# Altium integrated library Maxim Analog Filters.IntLib: 555 symbols (part 21 of 26)
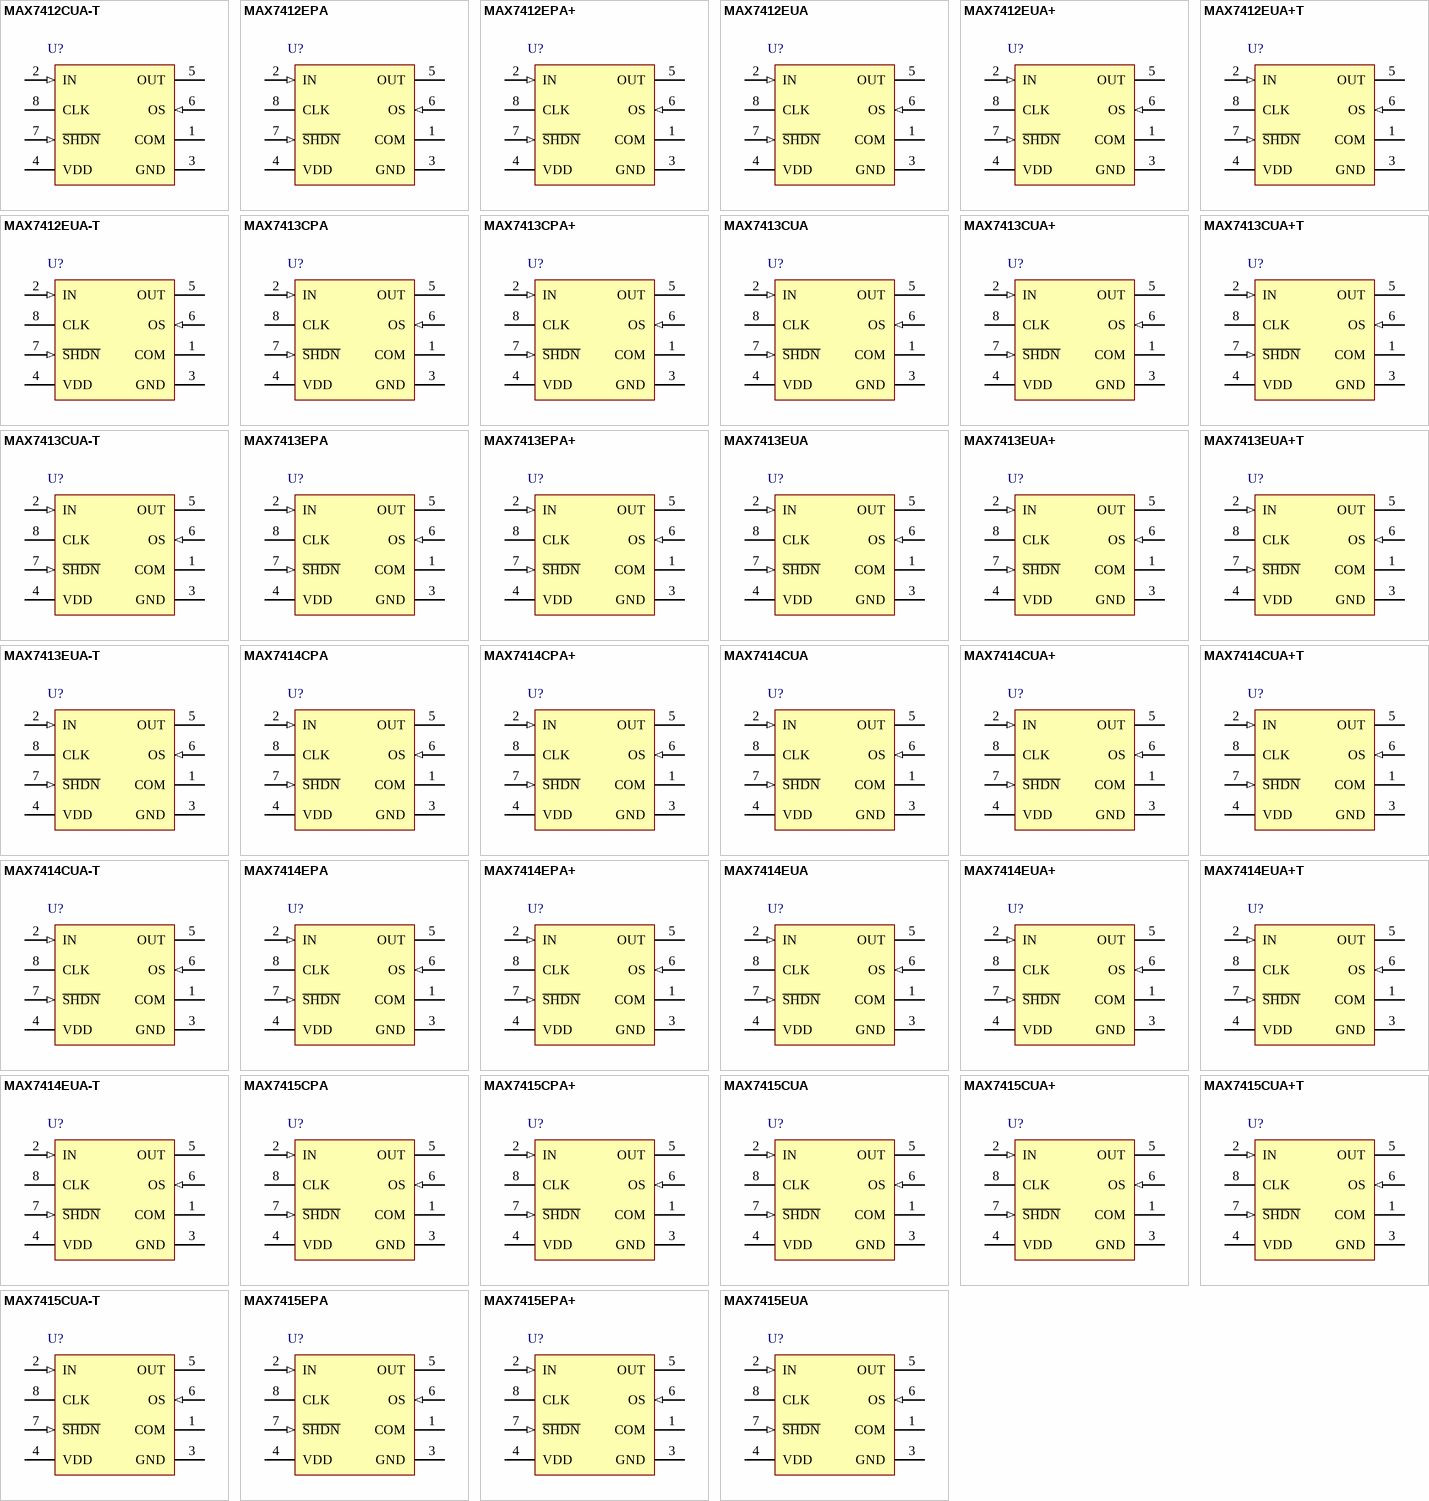
[diagram p37: symbols MAX7412CUA-T to MAX7415EUA]

## MAX7414EPA+
designator U?
5th-Order Switched Capacitor Lowpass Filter, Butterworth, 3 V, -40 to 85 degC, 8-Pin DIP (P8+1), Pb-Free; Generic Part Number: MAX7414; PartNumber: MAX7414EPA+; Filter Sections: 1; Order Per Filter Section: 5; Program Method: Clock; DatasheetVersion: Rev. 1; PackageVersion: Rev. E, 04/2011; PackageReference: P8+1; PackageDescription: 8-Pin Plastic Dual-In-Line, Narrow (0.3in) (P8+1), Body 9.375 x 6.985 mm, Pitch 2.54 mm; Supplier 1: Digi-Key; Supplier Part Number 1: MAX7414EPA+-ND; Supplier 2: Mouser; Supplier Part Number 2: 700-MAX7414EPA; Filter Characteristic: Butterworth; Filter Class: Switched Cap; Filter Type: Lowpass; RoHS: Pb-Free; Mounting Technology: Through Hole; Code_JEDEC: MS001-XX; ComponentLink1Description: Manufacturer URL; ComponentLink1URL: http://www.maximintegrated.com/; ComponentLink2Description: Datasheet; ComponentLink2URL: http://datasheets.maximintegrated.com/en/ds/MAX7409-MAX7414.pdf; ComponentLink3Description: Package Specification; ComponentLink3URL: http://pdfserv.maximintegrated.com/package_dwgs/21-0043.PDF
footprint MAXM-P8+1 (DIP, 8-Leads, Body 9.375x6.985mm, Pitch 2.54mm)
pins: 1 COM "Common Input. Biased internally at midsupply. Bypass externally to GND with a 0.1uF capacitor. To override internal biasing, drive with an external supply.", 2 IN (in) "Filter Input", 3 GND (power) "Ground", 4 VDD (power) "Positive Supply Input: +5V for MAX7400/MAX7403, +3V for MAX7404/MAX7407", 5 OUT (hiz) "Filter Output", 6 OS (in) "Offset Adjust Input. To adjust output offset, bias OS externally. Connect OS to COM if no offset adjustment is needed. Refer to Offset and Common-Mode Input Adjustment section.", 7 ~{SHDN} (in) "Shutdown Input. Drive low to enable shutdown mode; drive high or connect to VDD for normal operation.", 8 CLK "Clock Input. To override the internal oscillator, connect to an external clock; otherwise, connect an external capacitor (COSC) from CLK to GND to set the internal oscillator frequency."

## MAX7414EUA
designator U?
5th-Order Switched Capacitor Lowpass Filter, Butterworth, 3 V, -40 to 85 degC, 8-Pin SOP (U8-1); Generic Part Number: MAX7414; PartNumber: MAX7414EUA; Filter Sections: 1; Order Per Filter Section: 5; Program Method: Clock; DatasheetVersion: Rev. 1; PackageVersion: Rev. L, 08/2009; PackageReference: U8-1; PackageDescription: 8-Pin Micro-MAX, Thin Shrink Small-Outline (U8-1), Body 3 x 3 mm, Pitch 0.65mm; Supplier 1: Mouser; Supplier Part Number 1: N/A; Filter Characteristic: Butterworth; Filter Class: Switched Cap; Filter Type: Lowpass; Mounting Technology: Surface Mount; Code_JEDEC: MO-187; ComponentLink1Description: Manufacturer URL; ComponentLink1URL: http://www.maximintegrated.com/; ComponentLink2Description: Datasheet; ComponentLink2URL: http://datasheets.maximintegrated.com/en/ds/MAX7409-MAX7414.pdf; ComponentLink3Description: Package Specification; ComponentLink3URL: http://pdfserv.maximintegrated.com/package_dwgs/21-0036.PDF
footprint MAXM-U8-1_N (SOP, 8-Leads, Body 3x3mm, Pitch 0.65mm, IPC Medium Density)
footprint MAXM-U8-1_L (SOP, 8-Leads, Body 3x3mm, Pitch 0.65mm, IPC High Density)
footprint MAXM-U8-1_M (SOP, 8-Leads, Body 3x3mm, Pitch 0.65mm, IPC Low Density)
pins: 1 COM "Common Input. Biased internally at midsupply. Bypass externally to GND with a 0.1uF capacitor. To override internal biasing, drive with an external supply.", 2 IN (in) "Filter Input", 3 GND (power) "Ground", 4 VDD (power) "Positive Supply Input: +5V for MAX7400/MAX7403, +3V for MAX7404/MAX7407", 5 OUT (hiz) "Filter Output", 6 OS (in) "Offset Adjust Input. To adjust output offset, bias OS externally. Connect OS to COM if no offset adjustment is needed. Refer to Offset and Common-Mode Input Adjustment section.", 7 ~{SHDN} (in) "Shutdown Input. Drive low to enable shutdown mode; drive high or connect to VDD for normal operation.", 8 CLK "Clock Input. To override the internal oscillator, connect to an external clock; otherwise, connect an external capacitor (COSC) from CLK to GND to set the internal oscillator frequency."

## MAX7414EUA+
designator U?
5th-Order Switched Capacitor Lowpass Filter, Butterworth, 3 V, -40 to 85 degC, 8-Pin SOP (U8+1), Pb-Free; Generic Part Number: MAX7414; PartNumber: MAX7414EUA+; Filter Sections: 1; Order Per Filter Section: 5; Program Method: Clock; DatasheetVersion: Rev. 1; PackageVersion: Rev. L, 08/2009; PackageReference: U8+1; PackageDescription: 8-Pin Micro-MAX, Thin Shrink Small-Outline (U8+1), Body 3 x 3 mm, Pitch 0.65 mm; Supplier 1: Digi-Key; Supplier Part Number 1: MAX7414EUA+-ND; Supplier 2: Farnell; Supplier Part Number 2: 1610126; Supplier 3: Newark; Supplier Part Number 3: 26R6615; Supplier 4: Newark; Supplier Part Number 4: 89K6151; Supplier 5: Mouser; Supplier Part Number 5: 700-MAX7414EUA; Filter Characteristic: Butterworth; Filter Class: Switched Cap; Filter Type: Lowpass; RoHS: Pb-Free; Mounting Technology: Surface Mount; Code_JEDEC: MO-187; ComponentLink1Description: Manufacturer URL; ComponentLink1URL: http://www.maximintegrated.com/; ComponentLink2Description: Datasheet; ComponentLink2URL: http://datasheets.maximintegrated.com/en/ds/MAX7409-MAX7414.pdf; ComponentLink3Description: Package Specification; ComponentLink3URL: http://pdfserv.maximintegrated.com/package_dwgs/21-0036.PDF
footprint MAXM-U8+1_N (SOP, 8-Leads, Body 3x3mm, Pitch 0.65mm, IPC Medium Density)
footprint MAXM-U8+1_L (SOP, 8-Leads, Body 3x3mm, Pitch 0.65mm, IPC High Density)
footprint MAXM-U8+1_M (SOP, 8-Leads, Body 3x3mm, Pitch 0.65mm, IPC Low Density)
pins: 1 COM "Common Input. Biased internally at midsupply. Bypass externally to GND with a 0.1uF capacitor. To override internal biasing, drive with an external supply.", 2 IN (in) "Filter Input", 3 GND (power) "Ground", 4 VDD (power) "Positive Supply Input: +5V for MAX7400/MAX7403, +3V for MAX7404/MAX7407", 5 OUT (hiz) "Filter Output", 6 OS (in) "Offset Adjust Input. To adjust output offset, bias OS externally. Connect OS to COM if no offset adjustment is needed. Refer to Offset and Common-Mode Input Adjustment section.", 7 ~{SHDN} (in) "Shutdown Input. Drive low to enable shutdown mode; drive high or connect to VDD for normal operation.", 8 CLK "Clock Input. To override the internal oscillator, connect to an external clock; otherwise, connect an external capacitor (COSC) from CLK to GND to set the internal oscillator frequency."

## MAX7414EUA+T
designator U?
5th-Order Switched Capacitor Lowpass Filter, Butterworth, 3 V, -40 to 85 degC, 8-Pin SOP (U8+1), Pb-Free, Tape and Reel; Generic Part Number: MAX7414; PartNumber: MAX7414EUA+T; Filter Sections: 1; Order Per Filter Section: 5; Program Method: Clock; DatasheetVersion: Rev. 1; PackageVersion: Rev. L, 08/2009; PackageReference: U8+1; PackageDescription: 8-Pin Micro-MAX, Thin Shrink Small-Outline (U8+1), Body 3 x 3 mm, Pitch 0.65 mm; Supplier 1: Digi-Key; Supplier Part Number 1: MAX7414EUA+T-ND; Supplier 2: Mouser; Supplier Part Number 2: 700-MAX7414EUAT; Filter Characteristic: Butterworth; Filter Class: Switched Cap; Filter Type: Lowpass; Packing: Tape and Reel; RoHS: Pb-Free; Mounting Technology: Surface Mount; Code_JEDEC: MO-187; ComponentLink1Description: Manufacturer URL; ComponentLink1URL: http://www.maximintegrated.com/; ComponentLink2Description: Datasheet; ComponentLink2URL: http://datasheets.maximintegrated.com/en/ds/MAX7409-MAX7414.pdf; ComponentLink3Description: Package Specification; ComponentLink3URL: http://pdfserv.maximintegrated.com/package_dwgs/21-0036.PDF
footprint MAXM-U8+1_N (SOP, 8-Leads, Body 3x3mm, Pitch 0.65mm, IPC Medium Density)
footprint MAXM-U8+1_L (SOP, 8-Leads, Body 3x3mm, Pitch 0.65mm, IPC High Density)
footprint MAXM-U8+1_M (SOP, 8-Leads, Body 3x3mm, Pitch 0.65mm, IPC Low Density)
pins: 1 COM "Common Input. Biased internally at midsupply. Bypass externally to GND with a 0.1uF capacitor. To override internal biasing, drive with an external supply.", 2 IN (in) "Filter Input", 3 GND (power) "Ground", 4 VDD (power) "Positive Supply Input: +5V for MAX7400/MAX7403, +3V for MAX7404/MAX7407", 5 OUT (hiz) "Filter Output", 6 OS (in) "Offset Adjust Input. To adjust output offset, bias OS externally. Connect OS to COM if no offset adjustment is needed. Refer to Offset and Common-Mode Input Adjustment section.", 7 ~{SHDN} (in) "Shutdown Input. Drive low to enable shutdown mode; drive high or connect to VDD for normal operation.", 8 CLK "Clock Input. To override the internal oscillator, connect to an external clock; otherwise, connect an external capacitor (COSC) from CLK to GND to set the internal oscillator frequency."

## MAX7414EUA-T
designator U?
5th-Order Switched Capacitor Lowpass Filter, Butterworth, 3 V, -40 to 85 degC, 8-Pin SOP (U8-1), Tape and Reel; Generic Part Number: MAX7414; PartNumber: MAX7414EUA-T; Filter Sections: 1; Order Per Filter Section: 5; Program Method: Clock; DatasheetVersion: Rev. 1; PackageVersion: Rev. L, 08/2009; PackageReference: U8-1; PackageDescription: 8-Pin Micro-MAX, Thin Shrink Small-Outline (U8-1), Body 3 x 3 mm, Pitch 0.65mm; Supplier 1: Mouser; Supplier Part Number 1: N/A; Filter Characteristic: Butterworth; Filter Class: Switched Cap; Filter Type: Lowpass; Packing: Tape and Reel; Mounting Technology: Surface Mount; Code_JEDEC: MO-187; ComponentLink1Description: Manufacturer URL; ComponentLink1URL: http://www.maximintegrated.com/; ComponentLink2Description: Datasheet; ComponentLink2URL: http://datasheets.maximintegrated.com/en/ds/MAX7409-MAX7414.pdf; ComponentLink3Description: Package Specification; ComponentLink3URL: http://pdfserv.maximintegrated.com/package_dwgs/21-0036.PDF
footprint MAXM-U8-1_N (SOP, 8-Leads, Body 3x3mm, Pitch 0.65mm, IPC Medium Density)
footprint MAXM-U8-1_L (SOP, 8-Leads, Body 3x3mm, Pitch 0.65mm, IPC High Density)
footprint MAXM-U8-1_M (SOP, 8-Leads, Body 3x3mm, Pitch 0.65mm, IPC Low Density)
pins: 1 COM "Common Input. Biased internally at midsupply. Bypass externally to GND with a 0.1uF capacitor. To override internal biasing, drive with an external supply.", 2 IN (in) "Filter Input", 3 GND (power) "Ground", 4 VDD (power) "Positive Supply Input: +5V for MAX7400/MAX7403, +3V for MAX7404/MAX7407", 5 OUT (hiz) "Filter Output", 6 OS (in) "Offset Adjust Input. To adjust output offset, bias OS externally. Connect OS to COM if no offset adjustment is needed. Refer to Offset and Common-Mode Input Adjustment section.", 7 ~{SHDN} (in) "Shutdown Input. Drive low to enable shutdown mode; drive high or connect to VDD for normal operation.", 8 CLK "Clock Input. To override the internal oscillator, connect to an external clock; otherwise, connect an external capacitor (COSC) from CLK to GND to set the internal oscillator frequency."

## MAX7415CPA
designator U?
5th-Order Switched Capacitor Lowpass Filter, Elliptic, 3 V, 0 to 70 degC, 8-Pin DIP (P8-1); Generic Part Number: MAX7415; PartNumber: MAX7415CPA; Filter Sections: 1; Order Per Filter Section: 5; Program Method: Clock; DatasheetVersion: Rev. 1; PackageVersion: Rev. E, 04/2011; PackageReference: P8-1; PackageDescription: 8-Pin Plastic Dual-In-Line, Narrow (0.3in) (P8-1), Body 9.375 x 6.985 mm, Pitch 2.54 mm; Supplier 1: Mouser; Supplier Part Number 1: N/A; Filter Characteristic: Elliptic; Filter Class: Switched Cap; Filter Type: Lowpass; Mounting Technology: Through Hole; Code_JEDEC: MS001-XX; ComponentLink1Description: Manufacturer URL; ComponentLink1URL: http://www.maximintegrated.com/; ComponentLink2Description: Datasheet; ComponentLink2URL: http://datasheets.maximintegrated.com/en/ds/MAX7408-MAX7415.pdf; ComponentLink3Description: Package Specification; ComponentLink3URL: http://pdfserv.maximintegrated.com/package_dwgs/21-0043.PDF
footprint MAXM-P8-1 (DIP, 8-Leads, Body 9.375x6.985mm, Pitch 2.54mm)
pins: 1 COM "Common Input. Biased internally at midsupply. Bypass externally to GND with a 0.1uF capacitor. To override internal biasing, drive with an external supply.", 2 IN (in) "Filter Input", 3 GND (power) "Ground", 4 VDD (power) "Positive Supply Input: +5V for MAX7400/MAX7403, +3V for MAX7404/MAX7407", 5 OUT (hiz) "Filter Output", 6 OS (in) "Offset Adjust Input. To adjust output offset, bias OS externally. Connect OS to COM if no offset adjustment is needed. Refer to Offset and Common-Mode Input Adjustment section.", 7 ~{SHDN} (in) "Shutdown Input. Drive low to enable shutdown mode; drive high or connect to VDD for normal operation.", 8 CLK "Clock Input. To override the internal oscillator, connect to an external clock; otherwise, connect an external capacitor (COSC) from CLK to GND to set the internal oscillator frequency."

## MAX7415CPA+
designator U?
5th-Order Switched Capacitor Lowpass Filter, Elliptic, 3 V, 0 to 70 degC, 8-Pin DIP (P8+1), Pb-Free; Generic Part Number: MAX7415; PartNumber: MAX7415CPA+; Filter Sections: 1; Order Per Filter Section: 5; Program Method: Clock; DatasheetVersion: Rev. 1; PackageVersion: Rev. E, 04/2011; PackageReference: P8+1; PackageDescription: 8-Pin Plastic Dual-In-Line, Narrow (0.3in) (P8+1), Body 9.375 x 6.985 mm, Pitch 2.54 mm; Supplier 1: Digi-Key; Supplier Part Number 1: MAX7415CPA+-ND; Supplier 2: Mouser; Supplier Part Number 2: 700-MAX7415CPA; Filter Characteristic: Elliptic; Filter Class: Switched Cap; Filter Type: Lowpass; RoHS: Pb-Free; Mounting Technology: Through Hole; Code_JEDEC: MS001-XX; ComponentLink1Description: Manufacturer URL; ComponentLink1URL: http://www.maximintegrated.com/; ComponentLink2Description: Datasheet; ComponentLink2URL: http://datasheets.maximintegrated.com/en/ds/MAX7408-MAX7415.pdf; ComponentLink3Description: Package Specification; ComponentLink3URL: http://pdfserv.maximintegrated.com/package_dwgs/21-0043.PDF
footprint MAXM-P8+1 (DIP, 8-Leads, Body 9.375x6.985mm, Pitch 2.54mm)
pins: 1 COM "Common Input. Biased internally at midsupply. Bypass externally to GND with a 0.1uF capacitor. To override internal biasing, drive with an external supply.", 2 IN (in) "Filter Input", 3 GND (power) "Ground", 4 VDD (power) "Positive Supply Input: +5V for MAX7400/MAX7403, +3V for MAX7404/MAX7407", 5 OUT (hiz) "Filter Output", 6 OS (in) "Offset Adjust Input. To adjust output offset, bias OS externally. Connect OS to COM if no offset adjustment is needed. Refer to Offset and Common-Mode Input Adjustment section.", 7 ~{SHDN} (in) "Shutdown Input. Drive low to enable shutdown mode; drive high or connect to VDD for normal operation.", 8 CLK "Clock Input. To override the internal oscillator, connect to an external clock; otherwise, connect an external capacitor (COSC) from CLK to GND to set the internal oscillator frequency."

## MAX7415CUA
designator U?
5th-Order Switched Capacitor Lowpass Filter, Elliptic, 3 V, 0 to 70 degC, 8-Pin SOP (U8-1); Generic Part Number: MAX7415; PartNumber: MAX7415CUA; Filter Sections: 1; Order Per Filter Section: 5; Program Method: Clock; DatasheetVersion: Rev. 1; PackageVersion: Rev. L, 08/2009; PackageReference: U8-1; PackageDescription: 8-Pin Micro-MAX, Thin Shrink Small-Outline (U8-1), Body 3 x 3 mm, Pitch 0.65mm; Supplier 1: Mouser; Supplier Part Number 1: N/A; Filter Characteristic: Elliptic; Filter Class: Switched Cap; Filter Type: Lowpass; Mounting Technology: Surface Mount; Code_JEDEC: MO-187; ComponentLink1Description: Manufacturer URL; ComponentLink1URL: http://www.maximintegrated.com/; ComponentLink2Description: Datasheet; ComponentLink2URL: http://datasheets.maximintegrated.com/en/ds/MAX7408-MAX7415.pdf; ComponentLink3Description: Package Specification; ComponentLink3URL: http://pdfserv.maximintegrated.com/package_dwgs/21-0036.PDF
footprint MAXM-U8-1_N (SOP, 8-Leads, Body 3x3mm, Pitch 0.65mm, IPC Medium Density)
footprint MAXM-U8-1_L (SOP, 8-Leads, Body 3x3mm, Pitch 0.65mm, IPC High Density)
footprint MAXM-U8-1_M (SOP, 8-Leads, Body 3x3mm, Pitch 0.65mm, IPC Low Density)
pins: 1 COM "Common Input. Biased internally at midsupply. Bypass externally to GND with a 0.1uF capacitor. To override internal biasing, drive with an external supply.", 2 IN (in) "Filter Input", 3 GND (power) "Ground", 4 VDD (power) "Positive Supply Input: +5V for MAX7400/MAX7403, +3V for MAX7404/MAX7407", 5 OUT (hiz) "Filter Output", 6 OS (in) "Offset Adjust Input. To adjust output offset, bias OS externally. Connect OS to COM if no offset adjustment is needed. Refer to Offset and Common-Mode Input Adjustment section.", 7 ~{SHDN} (in) "Shutdown Input. Drive low to enable shutdown mode; drive high or connect to VDD for normal operation.", 8 CLK "Clock Input. To override the internal oscillator, connect to an external clock; otherwise, connect an external capacitor (COSC) from CLK to GND to set the internal oscillator frequency."

## MAX7415CUA+
designator U?
5th-Order Switched Capacitor Lowpass Filter, Elliptic, 3 V, 0 to 70 degC, 8-Pin SOP (U8+1), Pb-Free; Generic Part Number: MAX7415; PartNumber: MAX7415CUA+; Filter Sections: 1; Order Per Filter Section: 5; Program Method: Clock; DatasheetVersion: Rev. 1; PackageVersion: Rev. L, 08/2009; PackageReference: U8+1; PackageDescription: 8-Pin Micro-MAX, Thin Shrink Small-Outline (U8+1), Body 3 x 3 mm, Pitch 0.65 mm; Supplier 1: Digi-Key; Supplier Part Number 1: MAX7415CUA+-ND; Supplier 2: Mouser; Supplier Part Number 2: 700-MAX7415CUA; Filter Characteristic: Elliptic; Filter Class: Switched Cap; Filter Type: Lowpass; RoHS: Pb-Free; Mounting Technology: Surface Mount; Code_JEDEC: MO-187; ComponentLink1Description: Manufacturer URL; ComponentLink1URL: http://www.maximintegrated.com/; ComponentLink2Description: Datasheet; ComponentLink2URL: http://datasheets.maximintegrated.com/en/ds/MAX7408-MAX7415.pdf; ComponentLink3Description: Package Specification; ComponentLink3URL: http://pdfserv.maximintegrated.com/package_dwgs/21-0036.PDF
footprint MAXM-U8+1_N (SOP, 8-Leads, Body 3x3mm, Pitch 0.65mm, IPC Medium Density)
footprint MAXM-U8+1_L (SOP, 8-Leads, Body 3x3mm, Pitch 0.65mm, IPC High Density)
footprint MAXM-U8+1_M (SOP, 8-Leads, Body 3x3mm, Pitch 0.65mm, IPC Low Density)
pins: 1 COM "Common Input. Biased internally at midsupply. Bypass externally to GND with a 0.1uF capacitor. To override internal biasing, drive with an external supply.", 2 IN (in) "Filter Input", 3 GND (power) "Ground", 4 VDD (power) "Positive Supply Input: +5V for MAX7400/MAX7403, +3V for MAX7404/MAX7407", 5 OUT (hiz) "Filter Output", 6 OS (in) "Offset Adjust Input. To adjust output offset, bias OS externally. Connect OS to COM if no offset adjustment is needed. Refer to Offset and Common-Mode Input Adjustment section.", 7 ~{SHDN} (in) "Shutdown Input. Drive low to enable shutdown mode; drive high or connect to VDD for normal operation.", 8 CLK "Clock Input. To override the internal oscillator, connect to an external clock; otherwise, connect an external capacitor (COSC) from CLK to GND to set the internal oscillator frequency."

## MAX7415CUA+T
designator U?
5th-Order Switched Capacitor Lowpass Filter, Elliptic, 3 V, 0 to 70 degC, 8-Pin SOP (U8+1), Pb-Free, Tape and Reel; Generic Part Number: MAX7415; PartNumber: MAX7415CUA+T; Filter Sections: 1; Order Per Filter Section: 5; Program Method: Clock; DatasheetVersion: Rev. 1; PackageVersion: Rev. L, 08/2009; PackageReference: U8+1; PackageDescription: 8-Pin Micro-MAX, Thin Shrink Small-Outline (U8+1), Body 3 x 3 mm, Pitch 0.65 mm; Supplier 1: Digi-Key; Supplier Part Number 1: MAX7415CUA+T-ND; Supplier 2: Mouser; Supplier Part Number 2: 700-MAX7415CUAT; Filter Characteristic: Elliptic; Filter Class: Switched Cap; Filter Type: Lowpass; Packing: Tape and Reel; RoHS: Pb-Free; Mounting Technology: Surface Mount; Code_JEDEC: MO-187; ComponentLink1Description: Manufacturer URL; ComponentLink1URL: http://www.maximintegrated.com/; ComponentLink2Description: Datasheet; ComponentLink2URL: http://datasheets.maximintegrated.com/en/ds/MAX7408-MAX7415.pdf; ComponentLink3Description: Package Specification; ComponentLink3URL: http://pdfserv.maximintegrated.com/package_dwgs/21-0036.PDF
footprint MAXM-U8+1_N (SOP, 8-Leads, Body 3x3mm, Pitch 0.65mm, IPC Medium Density)
footprint MAXM-U8+1_L (SOP, 8-Leads, Body 3x3mm, Pitch 0.65mm, IPC High Density)
footprint MAXM-U8+1_M (SOP, 8-Leads, Body 3x3mm, Pitch 0.65mm, IPC Low Density)
pins: 1 COM "Common Input. Biased internally at midsupply. Bypass externally to GND with a 0.1uF capacitor. To override internal biasing, drive with an external supply.", 2 IN (in) "Filter Input", 3 GND (power) "Ground", 4 VDD (power) "Positive Supply Input: +5V for MAX7400/MAX7403, +3V for MAX7404/MAX7407", 5 OUT (hiz) "Filter Output", 6 OS (in) "Offset Adjust Input. To adjust output offset, bias OS externally. Connect OS to COM if no offset adjustment is needed. Refer to Offset and Common-Mode Input Adjustment section.", 7 ~{SHDN} (in) "Shutdown Input. Drive low to enable shutdown mode; drive high or connect to VDD for normal operation.", 8 CLK "Clock Input. To override the internal oscillator, connect to an external clock; otherwise, connect an external capacitor (COSC) from CLK to GND to set the internal oscillator frequency."

## MAX7415CUA-T
designator U?
5th-Order Switched Capacitor Lowpass Filter, Elliptic, 3 V, 0 to 70 degC, 8-Pin SOP (U8-1), Tape and Reel; Generic Part Number: MAX7415; PartNumber: MAX7415CUA-T; Filter Sections: 1; Order Per Filter Section: 5; Program Method: Clock; DatasheetVersion: Rev. 1; PackageVersion: Rev. L, 08/2009; PackageReference: U8-1; PackageDescription: 8-Pin Micro-MAX, Thin Shrink Small-Outline (U8-1), Body 3 x 3 mm, Pitch 0.65mm; Supplier 1: Mouser; Supplier Part Number 1: N/A; Filter Characteristic: Elliptic; Filter Class: Switched Cap; Filter Type: Lowpass; Packing: Tape and Reel; Mounting Technology: Surface Mount; Code_JEDEC: MO-187; ComponentLink1Description: Manufacturer URL; ComponentLink1URL: http://www.maximintegrated.com/; ComponentLink2Description: Datasheet; ComponentLink2URL: http://datasheets.maximintegrated.com/en/ds/MAX7408-MAX7415.pdf; ComponentLink3Description: Package Specification; ComponentLink3URL: http://pdfserv.maximintegrated.com/package_dwgs/21-0036.PDF
footprint MAXM-U8-1_N (SOP, 8-Leads, Body 3x3mm, Pitch 0.65mm, IPC Medium Density)
footprint MAXM-U8-1_L (SOP, 8-Leads, Body 3x3mm, Pitch 0.65mm, IPC High Density)
footprint MAXM-U8-1_M (SOP, 8-Leads, Body 3x3mm, Pitch 0.65mm, IPC Low Density)
pins: 1 COM "Common Input. Biased internally at midsupply. Bypass externally to GND with a 0.1uF capacitor. To override internal biasing, drive with an external supply.", 2 IN (in) "Filter Input", 3 GND (power) "Ground", 4 VDD (power) "Positive Supply Input: +5V for MAX7400/MAX7403, +3V for MAX7404/MAX7407", 5 OUT (hiz) "Filter Output", 6 OS (in) "Offset Adjust Input. To adjust output offset, bias OS externally. Connect OS to COM if no offset adjustment is needed. Refer to Offset and Common-Mode Input Adjustment section.", 7 ~{SHDN} (in) "Shutdown Input. Drive low to enable shutdown mode; drive high or connect to VDD for normal operation.", 8 CLK "Clock Input. To override the internal oscillator, connect to an external clock; otherwise, connect an external capacitor (COSC) from CLK to GND to set the internal oscillator frequency."

## MAX7415EPA
designator U?
5th-Order Switched Capacitor Lowpass Filter, Elliptic, 3 V, -40 to 85 degC, 8-Pin DIP (P8-1); Generic Part Number: MAX7415; PartNumber: MAX7415EPA; Filter Sections: 1; Order Per Filter Section: 5; Program Method: Clock; DatasheetVersion: Rev. 1; PackageVersion: Rev. E, 04/2011; PackageReference: P8-1; PackageDescription: 8-Pin Plastic Dual-In-Line, Narrow (0.3in) (P8-1), Body 9.375 x 6.985 mm, Pitch 2.54 mm; Supplier 1: Mouser; Supplier Part Number 1: N/A; Filter Characteristic: Elliptic; Filter Class: Switched Cap; Filter Type: Lowpass; Mounting Technology: Through Hole; Code_JEDEC: MS001-XX; ComponentLink1Description: Manufacturer URL; ComponentLink1URL: http://www.maximintegrated.com/; ComponentLink2Description: Datasheet; ComponentLink2URL: http://datasheets.maximintegrated.com/en/ds/MAX7408-MAX7415.pdf; ComponentLink3Description: Package Specification; ComponentLink3URL: http://pdfserv.maximintegrated.com/package_dwgs/21-0043.PDF
footprint MAXM-P8-1 (DIP, 8-Leads, Body 9.375x6.985mm, Pitch 2.54mm)
pins: 1 COM "Common Input. Biased internally at midsupply. Bypass externally to GND with a 0.1uF capacitor. To override internal biasing, drive with an external supply.", 2 IN (in) "Filter Input", 3 GND (power) "Ground", 4 VDD (power) "Positive Supply Input: +5V for MAX7400/MAX7403, +3V for MAX7404/MAX7407", 5 OUT (hiz) "Filter Output", 6 OS (in) "Offset Adjust Input. To adjust output offset, bias OS externally. Connect OS to COM if no offset adjustment is needed. Refer to Offset and Common-Mode Input Adjustment section.", 7 ~{SHDN} (in) "Shutdown Input. Drive low to enable shutdown mode; drive high or connect to VDD for normal operation.", 8 CLK "Clock Input. To override the internal oscillator, connect to an external clock; otherwise, connect an external capacitor (COSC) from CLK to GND to set the internal oscillator frequency."

## MAX7415EPA+
designator U?
5th-Order Switched Capacitor Lowpass Filter, Elliptic, 3 V, -40 to 85 degC, 8-Pin DIP (P8+1), Pb-Free; Generic Part Number: MAX7415; PartNumber: MAX7415EPA+; Filter Sections: 1; Order Per Filter Section: 5; Program Method: Clock; DatasheetVersion: Rev. 1; PackageVersion: Rev. E, 04/2011; PackageReference: P8+1; PackageDescription: 8-Pin Plastic Dual-In-Line, Narrow (0.3in) (P8+1), Body 9.375 x 6.985 mm, Pitch 2.54 mm; Supplier 1: Digi-Key; Supplier Part Number 1: MAX7415EPA+-ND; Supplier 2: Mouser; Supplier Part Number 2: 700-MAX7415EPA; Filter Characteristic: Elliptic; Filter Class: Switched Cap; Filter Type: Lowpass; RoHS: Pb-Free; Mounting Technology: Through Hole; Code_JEDEC: MS001-XX; ComponentLink1Description: Manufacturer URL; ComponentLink1URL: http://www.maximintegrated.com/; ComponentLink2Description: Datasheet; ComponentLink2URL: http://datasheets.maximintegrated.com/en/ds/MAX7408-MAX7415.pdf; ComponentLink3Description: Package Specification; ComponentLink3URL: http://pdfserv.maximintegrated.com/package_dwgs/21-0043.PDF
footprint MAXM-P8+1 (DIP, 8-Leads, Body 9.375x6.985mm, Pitch 2.54mm)
pins: 1 COM "Common Input. Biased internally at midsupply. Bypass externally to GND with a 0.1uF capacitor. To override internal biasing, drive with an external supply.", 2 IN (in) "Filter Input", 3 GND (power) "Ground", 4 VDD (power) "Positive Supply Input: +5V for MAX7400/MAX7403, +3V for MAX7404/MAX7407", 5 OUT (hiz) "Filter Output", 6 OS (in) "Offset Adjust Input. To adjust output offset, bias OS externally. Connect OS to COM if no offset adjustment is needed. Refer to Offset and Common-Mode Input Adjustment section.", 7 ~{SHDN} (in) "Shutdown Input. Drive low to enable shutdown mode; drive high or connect to VDD for normal operation.", 8 CLK "Clock Input. To override the internal oscillator, connect to an external clock; otherwise, connect an external capacitor (COSC) from CLK to GND to set the internal oscillator frequency."

## MAX7415EUA
designator U?
5th-Order Switched Capacitor Lowpass Filter, Elliptic, 3 V, -40 to 85 degC, 8-Pin SOP (U8-1); Generic Part Number: MAX7415; PartNumber: MAX7415EUA; Filter Sections: 1; Order Per Filter Section: 5; Program Method: Clock; DatasheetVersion: Rev. 1; PackageVersion: Rev. L, 08/2009; PackageReference: U8-1; PackageDescription: 8-Pin Micro-MAX, Thin Shrink Small-Outline (U8-1), Body 3 x 3 mm, Pitch 0.65mm; Supplier 1: Mouser; Supplier Part Number 1: N/A; Filter Characteristic: Elliptic; Filter Class: Switched Cap; Filter Type: Lowpass; Mounting Technology: Surface Mount; Code_JEDEC: MO-187; ComponentLink1Description: Manufacturer URL; ComponentLink1URL: http://www.maximintegrated.com/; ComponentLink2Description: Datasheet; ComponentLink2URL: http://datasheets.maximintegrated.com/en/ds/MAX7408-MAX7415.pdf; ComponentLink3Description: Package Specification; ComponentLink3URL: http://pdfserv.maximintegrated.com/package_dwgs/21-0036.PDF
footprint MAXM-U8-1_N (SOP, 8-Leads, Body 3x3mm, Pitch 0.65mm, IPC Medium Density)
footprint MAXM-U8-1_L (SOP, 8-Leads, Body 3x3mm, Pitch 0.65mm, IPC High Density)
footprint MAXM-U8-1_M (SOP, 8-Leads, Body 3x3mm, Pitch 0.65mm, IPC Low Density)
pins: 1 COM "Common Input. Biased internally at midsupply. Bypass externally to GND with a 0.1uF capacitor. To override internal biasing, drive with an external supply.", 2 IN (in) "Filter Input", 3 GND (power) "Ground", 4 VDD (power) "Positive Supply Input: +5V for MAX7400/MAX7403, +3V for MAX7404/MAX7407", 5 OUT (hiz) "Filter Output", 6 OS (in) "Offset Adjust Input. To adjust output offset, bias OS externally. Connect OS to COM if no offset adjustment is needed. Refer to Offset and Common-Mode Input Adjustment section.", 7 ~{SHDN} (in) "Shutdown Input. Drive low to enable shutdown mode; drive high or connect to VDD for normal operation.", 8 CLK "Clock Input. To override the internal oscillator, connect to an external clock; otherwise, connect an external capacitor (COSC) from CLK to GND to set the internal oscillator frequency."

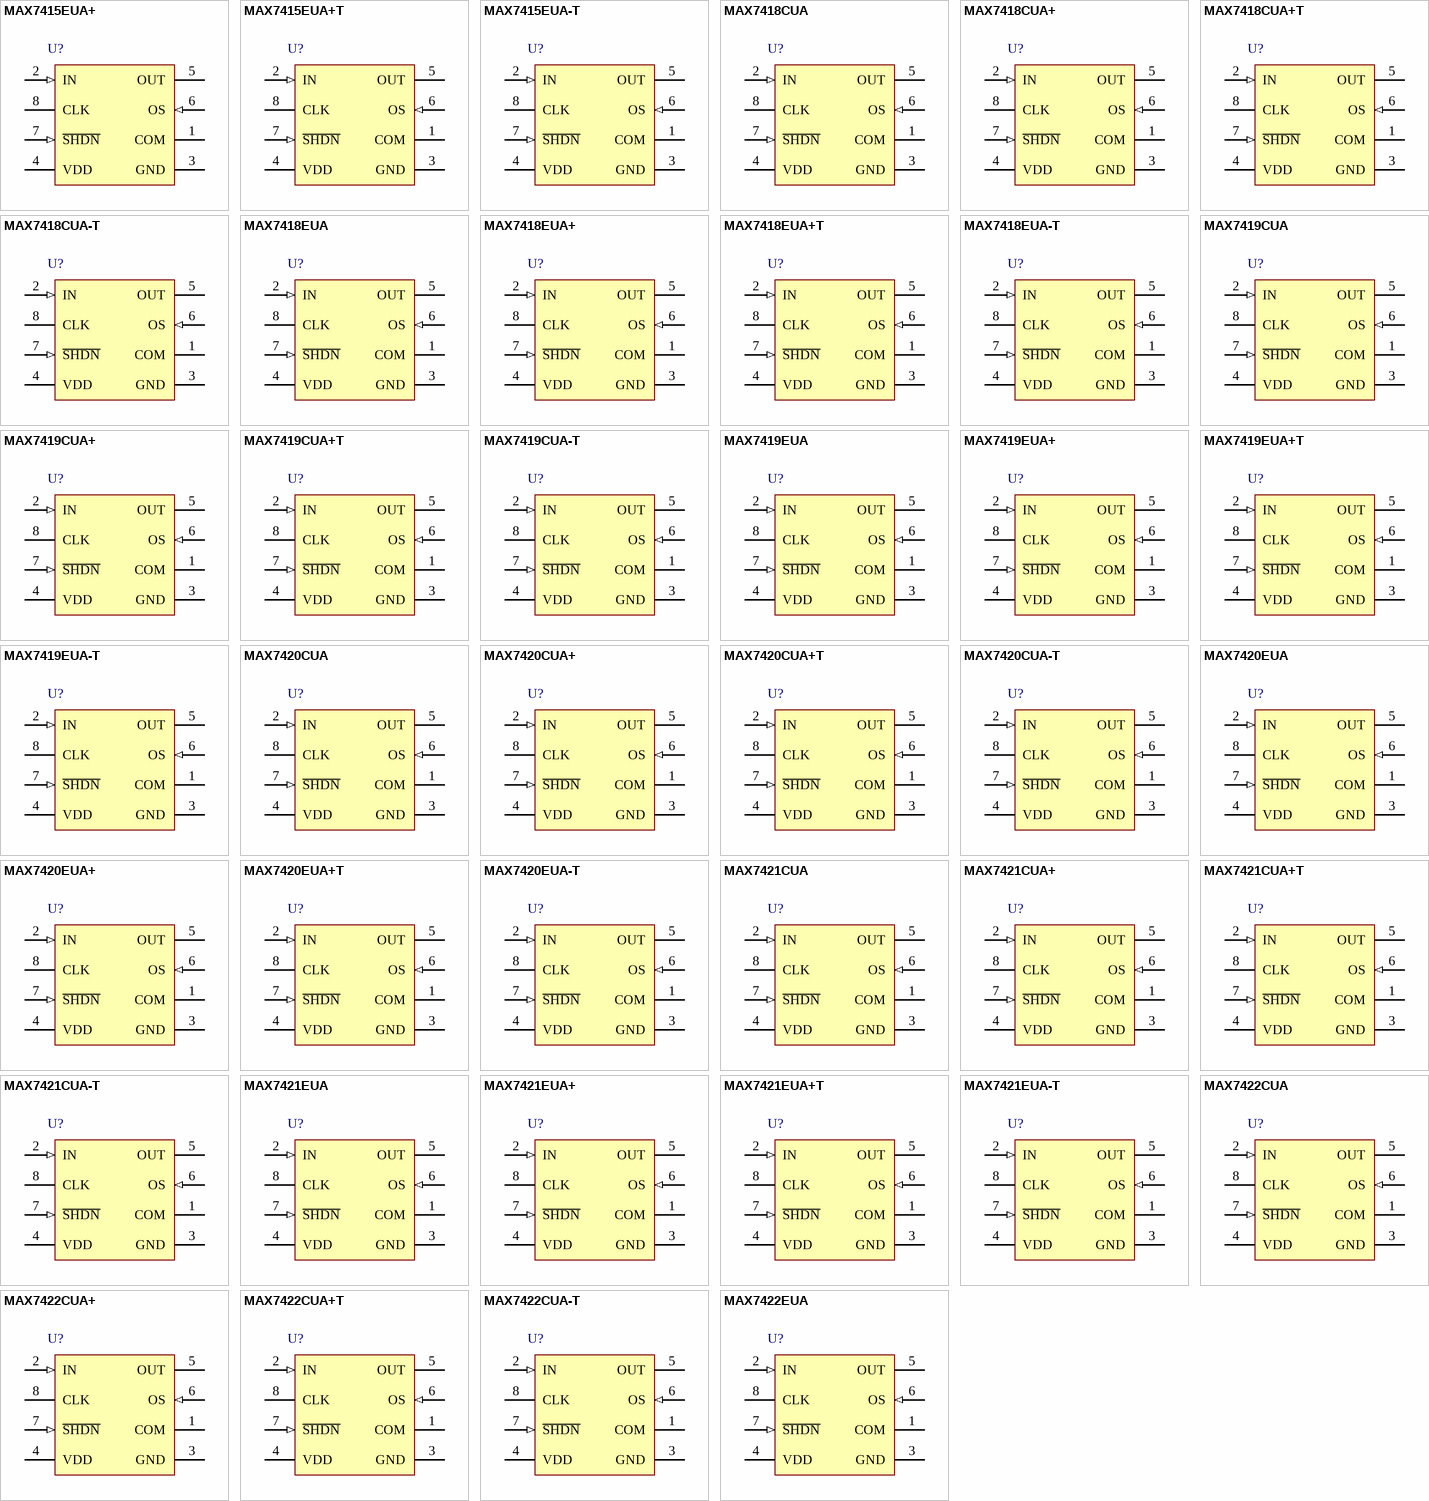
[diagram p15: symbols MAX7415EUA+ to MAX7422EUA]

## MAX7415EUA+
designator U?
5th-Order Switched Capacitor Lowpass Filter, Elliptic, 3 V, -40 to 85 degC, 8-Pin SOP (U8+1), Pb-Free; Generic Part Number: MAX7415; PartNumber: MAX7415EUA+; Filter Sections: 1; Order Per Filter Section: 5; Program Method: Clock; DatasheetVersion: Rev. 1; PackageVersion: Rev. L, 08/2009; PackageReference: U8+1; PackageDescription: 8-Pin Micro-MAX, Thin Shrink Small-Outline (U8+1), Body 3 x 3 mm, Pitch 0.65 mm; Supplier 1: Digi-Key; Supplier Part Number 1: MAX7415EUA+-ND; Supplier 2: Mouser; Supplier Part Number 2: 700-MAX7415EUA; Filter Characteristic: Elliptic; Filter Class: Switched Cap; Filter Type: Lowpass; RoHS: Pb-Free; Mounting Technology: Surface Mount; Code_JEDEC: MO-187; ComponentLink1Description: Manufacturer URL; ComponentLink1URL: http://www.maximintegrated.com/; ComponentLink2Description: Datasheet; ComponentLink2URL: http://datasheets.maximintegrated.com/en/ds/MAX7408-MAX7415.pdf; ComponentLink3Description: Package Specification; ComponentLink3URL: http://pdfserv.maximintegrated.com/package_dwgs/21-0036.PDF
footprint MAXM-U8+1_N (SOP, 8-Leads, Body 3x3mm, Pitch 0.65mm, IPC Medium Density)
footprint MAXM-U8+1_L (SOP, 8-Leads, Body 3x3mm, Pitch 0.65mm, IPC High Density)
footprint MAXM-U8+1_M (SOP, 8-Leads, Body 3x3mm, Pitch 0.65mm, IPC Low Density)
pins: 1 COM "Common Input. Biased internally at midsupply. Bypass externally to GND with a 0.1uF capacitor. To override internal biasing, drive with an external supply.", 2 IN (in) "Filter Input", 3 GND (power) "Ground", 4 VDD (power) "Positive Supply Input: +5V for MAX7400/MAX7403, +3V for MAX7404/MAX7407", 5 OUT (hiz) "Filter Output", 6 OS (in) "Offset Adjust Input. To adjust output offset, bias OS externally. Connect OS to COM if no offset adjustment is needed. Refer to Offset and Common-Mode Input Adjustment section.", 7 ~{SHDN} (in) "Shutdown Input. Drive low to enable shutdown mode; drive high or connect to VDD for normal operation.", 8 CLK "Clock Input. To override the internal oscillator, connect to an external clock; otherwise, connect an external capacitor (COSC) from CLK to GND to set the internal oscillator frequency."

## MAX7415EUA+T
designator U?
5th-Order Switched Capacitor Lowpass Filter, Elliptic, 3 V, -40 to 85 degC, 8-Pin SOP (U8+1), Pb-Free, Tape and Reel; Generic Part Number: MAX7415; PartNumber: MAX7415EUA+T; Filter Sections: 1; Order Per Filter Section: 5; Program Method: Clock; DatasheetVersion: Rev. 1; PackageVersion: Rev. L, 08/2009; PackageReference: U8+1; PackageDescription: 8-Pin Micro-MAX, Thin Shrink Small-Outline (U8+1), Body 3 x 3 mm, Pitch 0.65 mm; Supplier 1: Digi-Key; Supplier Part Number 1: MAX7415EUA+T-ND; Supplier 2: Mouser; Supplier Part Number 2: 700-MAX7415EUAT; Filter Characteristic: Elliptic; Filter Class: Switched Cap; Filter Type: Lowpass; Packing: Tape and Reel; RoHS: Pb-Free; Mounting Technology: Surface Mount; Code_JEDEC: MO-187; ComponentLink1Description: Manufacturer URL; ComponentLink1URL: http://www.maximintegrated.com/; ComponentLink2Description: Datasheet; ComponentLink2URL: http://datasheets.maximintegrated.com/en/ds/MAX7408-MAX7415.pdf; ComponentLink3Description: Package Specification; ComponentLink3URL: http://pdfserv.maximintegrated.com/package_dwgs/21-0036.PDF
footprint MAXM-U8+1_N (SOP, 8-Leads, Body 3x3mm, Pitch 0.65mm, IPC Medium Density)
footprint MAXM-U8+1_L (SOP, 8-Leads, Body 3x3mm, Pitch 0.65mm, IPC High Density)
footprint MAXM-U8+1_M (SOP, 8-Leads, Body 3x3mm, Pitch 0.65mm, IPC Low Density)
pins: 1 COM "Common Input. Biased internally at midsupply. Bypass externally to GND with a 0.1uF capacitor. To override internal biasing, drive with an external supply.", 2 IN (in) "Filter Input", 3 GND (power) "Ground", 4 VDD (power) "Positive Supply Input: +5V for MAX7400/MAX7403, +3V for MAX7404/MAX7407", 5 OUT (hiz) "Filter Output", 6 OS (in) "Offset Adjust Input. To adjust output offset, bias OS externally. Connect OS to COM if no offset adjustment is needed. Refer to Offset and Common-Mode Input Adjustment section.", 7 ~{SHDN} (in) "Shutdown Input. Drive low to enable shutdown mode; drive high or connect to VDD for normal operation.", 8 CLK "Clock Input. To override the internal oscillator, connect to an external clock; otherwise, connect an external capacitor (COSC) from CLK to GND to set the internal oscillator frequency."

## MAX7415EUA-T
designator U?
5th-Order Switched Capacitor Lowpass Filter, Elliptic, 3 V, -40 to 85 degC, 8-Pin SOP (U8-1), Tape and Reel; Generic Part Number: MAX7415; PartNumber: MAX7415EUA-T; Filter Sections: 1; Order Per Filter Section: 5; Program Method: Clock; DatasheetVersion: Rev. 1; PackageVersion: Rev. L, 08/2009; PackageReference: U8-1; PackageDescription: 8-Pin Micro-MAX, Thin Shrink Small-Outline (U8-1), Body 3 x 3 mm, Pitch 0.65mm; Supplier 1: Mouser; Supplier Part Number 1: N/A; Filter Characteristic: Elliptic; Filter Class: Switched Cap; Filter Type: Lowpass; Packing: Tape and Reel; Mounting Technology: Surface Mount; Code_JEDEC: MO-187; ComponentLink1Description: Manufacturer URL; ComponentLink1URL: http://www.maximintegrated.com/; ComponentLink2Description: Datasheet; ComponentLink2URL: http://datasheets.maximintegrated.com/en/ds/MAX7408-MAX7415.pdf; ComponentLink3Description: Package Specification; ComponentLink3URL: http://pdfserv.maximintegrated.com/package_dwgs/21-0036.PDF
footprint MAXM-U8-1_N (SOP, 8-Leads, Body 3x3mm, Pitch 0.65mm, IPC Medium Density)
footprint MAXM-U8-1_L (SOP, 8-Leads, Body 3x3mm, Pitch 0.65mm, IPC High Density)
footprint MAXM-U8-1_M (SOP, 8-Leads, Body 3x3mm, Pitch 0.65mm, IPC Low Density)
pins: 1 COM "Common Input. Biased internally at midsupply. Bypass externally to GND with a 0.1uF capacitor. To override internal biasing, drive with an external supply.", 2 IN (in) "Filter Input", 3 GND (power) "Ground", 4 VDD (power) "Positive Supply Input: +5V for MAX7400/MAX7403, +3V for MAX7404/MAX7407", 5 OUT (hiz) "Filter Output", 6 OS (in) "Offset Adjust Input. To adjust output offset, bias OS externally. Connect OS to COM if no offset adjustment is needed. Refer to Offset and Common-Mode Input Adjustment section.", 7 ~{SHDN} (in) "Shutdown Input. Drive low to enable shutdown mode; drive high or connect to VDD for normal operation.", 8 CLK "Clock Input. To override the internal oscillator, connect to an external clock; otherwise, connect an external capacitor (COSC) from CLK to GND to set the internal oscillator frequency."

## MAX7418CUA
designator U?
5th-Order Switched Capacitor Lowpass Filter, Elliptic, 0 to 70 degC, 8-Pin SOP (U8-1); Generic Part Number: MAX7418; PartNumber: MAX7418CUA; Filter Sections: 1; Order Per Filter Section: 5; Program Method: Clock; DatasheetVersion: Rev. 0; PackageVersion: Rev. L, 08/2009; PackageReference: U8-1; PackageDescription: 8-Pin Micro-MAX, Thin Shrink Small-Outline (U8-1), Body 3 x 3 mm, Pitch 0.65mm; Supplier 1: Mouser; Supplier Part Number 1: N/A; Filter Characteristic: Elliptic; Filter Class: Switched Cap; Filter Type: Lowpass; Mounting Technology: Surface Mount; Code_JEDEC: MO-187; ComponentLink1Description: Manufacturer URL; ComponentLink1URL: http://www.maximintegrated.com/; ComponentLink2Description: Datasheet; ComponentLink2URL: http://datasheets.maximintegrated.com/en/ds/MAX7418-MAX7425.pdf; ComponentLink3Description: Package Specification; ComponentLink3URL: http://pdfserv.maximintegrated.com/package_dwgs/21-0036.PDF
footprint MAXM-U8-1_N (SOP, 8-Leads, Body 3x3mm, Pitch 0.65mm, IPC Medium Density)
footprint MAXM-U8-1_L (SOP, 8-Leads, Body 3x3mm, Pitch 0.65mm, IPC High Density)
footprint MAXM-U8-1_M (SOP, 8-Leads, Body 3x3mm, Pitch 0.65mm, IPC Low Density)
pins: 1 COM "Common Input. Biased internally at midsupply. Bypass externally to GND with a 0.1uF capacitor. To override internal biasing, drive with an external supply.", 2 IN (in) "Filter Input", 3 GND (power) "Ground", 4 VDD (power) "Positive Supply Input: +5V for MAX7400/MAX7403, +3V for MAX7404/MAX7407", 5 OUT (hiz) "Filter Output", 6 OS (in) "Offset Adjust Input. To adjust output offset, bias OS externally. Connect OS to COM if no offset adjustment is needed. Refer to Offset and Common-Mode Input Adjustment section.", 7 ~{SHDN} (in) "Shutdown Input. Drive low to enable shutdown mode; drive high or connect to VDD for normal operation.", 8 CLK "Clock Input. To override the internal oscillator, connect to an external clock; otherwise, connect an external capacitor (COSC) from CLK to GND to set the internal oscillator frequency."

## MAX7418CUA+
designator U?
5th-Order Switched Capacitor Lowpass Filter, Elliptic, 0 to 70 degC, 8-Pin SOP (U8+1), Pb-Free; Generic Part Number: MAX7418; PartNumber: MAX7418CUA+; Filter Sections: 1; Order Per Filter Section: 5; Program Method: Clock; DatasheetVersion: Rev. 0; PackageVersion: Rev. L, 08/2009; PackageReference: U8+1; PackageDescription: 8-Pin Micro-MAX, Thin Shrink Small-Outline (U8+1), Body 3 x 3 mm, Pitch 0.65 mm; Supplier 1: Digi-Key; Supplier Part Number 1: MAX7418CUA+-ND; Supplier 2: Mouser; Supplier Part Number 2: 700-MAX7418CUA; Filter Characteristic: Elliptic; Filter Class: Switched Cap; Filter Type: Lowpass; RoHS: Pb-Free; Mounting Technology: Surface Mount; Code_JEDEC: MO-187; ComponentLink1Description: Manufacturer URL; ComponentLink1URL: http://www.maximintegrated.com/; ComponentLink2Description: Datasheet; ComponentLink2URL: http://datasheets.maximintegrated.com/en/ds/MAX7418-MAX7425.pdf; ComponentLink3Description: Package Specification; ComponentLink3URL: http://pdfserv.maximintegrated.com/package_dwgs/21-0036.PDF
footprint MAXM-U8+1_N (SOP, 8-Leads, Body 3x3mm, Pitch 0.65mm, IPC Medium Density)
footprint MAXM-U8+1_L (SOP, 8-Leads, Body 3x3mm, Pitch 0.65mm, IPC High Density)
footprint MAXM-U8+1_M (SOP, 8-Leads, Body 3x3mm, Pitch 0.65mm, IPC Low Density)
pins: 1 COM "Common Input. Biased internally at midsupply. Bypass externally to GND with a 0.1uF capacitor. To override internal biasing, drive with an external supply.", 2 IN (in) "Filter Input", 3 GND (power) "Ground", 4 VDD (power) "Positive Supply Input: +5V for MAX7400/MAX7403, +3V for MAX7404/MAX7407", 5 OUT (hiz) "Filter Output", 6 OS (in) "Offset Adjust Input. To adjust output offset, bias OS externally. Connect OS to COM if no offset adjustment is needed. Refer to Offset and Common-Mode Input Adjustment section.", 7 ~{SHDN} (in) "Shutdown Input. Drive low to enable shutdown mode; drive high or connect to VDD for normal operation.", 8 CLK "Clock Input. To override the internal oscillator, connect to an external clock; otherwise, connect an external capacitor (COSC) from CLK to GND to set the internal oscillator frequency."

## MAX7418CUA+T
designator U?
5th-Order Switched Capacitor Lowpass Filter, Elliptic, 0 to 70 degC, 8-Pin SOP (U8+1), Pb-Free, Tape and Reel; Generic Part Number: MAX7418; PartNumber: MAX7418CUA+T; Filter Sections: 1; Order Per Filter Section: 5; Program Method: Clock; DatasheetVersion: Rev. 0; PackageVersion: Rev. L, 08/2009; PackageReference: U8+1; PackageDescription: 8-Pin Micro-MAX, Thin Shrink Small-Outline (U8+1), Body 3 x 3 mm, Pitch 0.65 mm; Supplier 1: Digi-Key; Supplier Part Number 1: MAX7418CUA+T-ND; Supplier 2: Mouser; Supplier Part Number 2: 700-MAX7418CUAT; Filter Characteristic: Elliptic; Filter Class: Switched Cap; Filter Type: Lowpass; Packing: Tape and Reel; RoHS: Pb-Free; Mounting Technology: Surface Mount; Code_JEDEC: MO-187; ComponentLink1Description: Manufacturer URL; ComponentLink1URL: http://www.maximintegrated.com/; ComponentLink2Description: Datasheet; ComponentLink2URL: http://datasheets.maximintegrated.com/en/ds/MAX7418-MAX7425.pdf; ComponentLink3Description: Package Specification; ComponentLink3URL: http://pdfserv.maximintegrated.com/package_dwgs/21-0036.PDF
footprint MAXM-U8+1_N (SOP, 8-Leads, Body 3x3mm, Pitch 0.65mm, IPC Medium Density)
footprint MAXM-U8+1_L (SOP, 8-Leads, Body 3x3mm, Pitch 0.65mm, IPC High Density)
footprint MAXM-U8+1_M (SOP, 8-Leads, Body 3x3mm, Pitch 0.65mm, IPC Low Density)
pins: 1 COM "Common Input. Biased internally at midsupply. Bypass externally to GND with a 0.1uF capacitor. To override internal biasing, drive with an external supply.", 2 IN (in) "Filter Input", 3 GND (power) "Ground", 4 VDD (power) "Positive Supply Input: +5V for MAX7400/MAX7403, +3V for MAX7404/MAX7407", 5 OUT (hiz) "Filter Output", 6 OS (in) "Offset Adjust Input. To adjust output offset, bias OS externally. Connect OS to COM if no offset adjustment is needed. Refer to Offset and Common-Mode Input Adjustment section.", 7 ~{SHDN} (in) "Shutdown Input. Drive low to enable shutdown mode; drive high or connect to VDD for normal operation.", 8 CLK "Clock Input. To override the internal oscillator, connect to an external clock; otherwise, connect an external capacitor (COSC) from CLK to GND to set the internal oscillator frequency."

## MAX7418CUA-T
designator U?
5th-Order Switched Capacitor Lowpass Filter, Elliptic, 0 to 70 degC, 8-Pin SOP (U8-1), Tape and Reel; Generic Part Number: MAX7418; PartNumber: MAX7418CUA-T; Filter Sections: 1; Order Per Filter Section: 5; Program Method: Clock; DatasheetVersion: Rev. 0; PackageVersion: Rev. L, 08/2009; PackageReference: U8-1; PackageDescription: 8-Pin Micro-MAX, Thin Shrink Small-Outline (U8-1), Body 3 x 3 mm, Pitch 0.65mm; Supplier 1: Mouser; Supplier Part Number 1: N/A; Filter Characteristic: Elliptic; Filter Class: Switched Cap; Filter Type: Lowpass; Packing: Tape and Reel; Mounting Technology: Surface Mount; Code_JEDEC: MO-187; ComponentLink1Description: Manufacturer URL; ComponentLink1URL: http://www.maximintegrated.com/; ComponentLink2Description: Datasheet; ComponentLink2URL: http://datasheets.maximintegrated.com/en/ds/MAX7418-MAX7425.pdf; ComponentLink3Description: Package Specification; ComponentLink3URL: http://pdfserv.maximintegrated.com/package_dwgs/21-0036.PDF
footprint MAXM-U8-1_N (SOP, 8-Leads, Body 3x3mm, Pitch 0.65mm, IPC Medium Density)
footprint MAXM-U8-1_L (SOP, 8-Leads, Body 3x3mm, Pitch 0.65mm, IPC High Density)
footprint MAXM-U8-1_M (SOP, 8-Leads, Body 3x3mm, Pitch 0.65mm, IPC Low Density)
pins: 1 COM "Common Input. Biased internally at midsupply. Bypass externally to GND with a 0.1uF capacitor. To override internal biasing, drive with an external supply.", 2 IN (in) "Filter Input", 3 GND (power) "Ground", 4 VDD (power) "Positive Supply Input: +5V for MAX7400/MAX7403, +3V for MAX7404/MAX7407", 5 OUT (hiz) "Filter Output", 6 OS (in) "Offset Adjust Input. To adjust output offset, bias OS externally. Connect OS to COM if no offset adjustment is needed. Refer to Offset and Common-Mode Input Adjustment section.", 7 ~{SHDN} (in) "Shutdown Input. Drive low to enable shutdown mode; drive high or connect to VDD for normal operation.", 8 CLK "Clock Input. To override the internal oscillator, connect to an external clock; otherwise, connect an external capacitor (COSC) from CLK to GND to set the internal oscillator frequency."

## MAX7418EUA
designator U?
5th-Order Switched Capacitor Lowpass Filter, Elliptic, -40 to 85 degC, 8-Pin SOP (U8-1); Generic Part Number: MAX7418; PartNumber: MAX7418EUA; Filter Sections: 1; Order Per Filter Section: 5; Program Method: Clock; DatasheetVersion: Rev. 0; PackageVersion: Rev. L, 08/2009; PackageReference: U8-1; PackageDescription: 8-Pin Micro-MAX, Thin Shrink Small-Outline (U8-1), Body 3 x 3 mm, Pitch 0.65mm; Supplier 1: Mouser; Supplier Part Number 1: N/A; Filter Characteristic: Elliptic; Filter Class: Switched Cap; Filter Type: Lowpass; Mounting Technology: Surface Mount; Code_JEDEC: MO-187; ComponentLink1Description: Manufacturer URL; ComponentLink1URL: http://www.maximintegrated.com/; ComponentLink2Description: Datasheet; ComponentLink2URL: http://datasheets.maximintegrated.com/en/ds/MAX7418-MAX7425.pdf; ComponentLink3Description: Package Specification; ComponentLink3URL: http://pdfserv.maximintegrated.com/package_dwgs/21-0036.PDF
footprint MAXM-U8-1_N (SOP, 8-Leads, Body 3x3mm, Pitch 0.65mm, IPC Medium Density)
footprint MAXM-U8-1_L (SOP, 8-Leads, Body 3x3mm, Pitch 0.65mm, IPC High Density)
footprint MAXM-U8-1_M (SOP, 8-Leads, Body 3x3mm, Pitch 0.65mm, IPC Low Density)
pins: 1 COM "Common Input. Biased internally at midsupply. Bypass externally to GND with a 0.1uF capacitor. To override internal biasing, drive with an external supply.", 2 IN (in) "Filter Input", 3 GND (power) "Ground", 4 VDD (power) "Positive Supply Input: +5V for MAX7400/MAX7403, +3V for MAX7404/MAX7407", 5 OUT (hiz) "Filter Output", 6 OS (in) "Offset Adjust Input. To adjust output offset, bias OS externally. Connect OS to COM if no offset adjustment is needed. Refer to Offset and Common-Mode Input Adjustment section.", 7 ~{SHDN} (in) "Shutdown Input. Drive low to enable shutdown mode; drive high or connect to VDD for normal operation.", 8 CLK "Clock Input. To override the internal oscillator, connect to an external clock; otherwise, connect an external capacitor (COSC) from CLK to GND to set the internal oscillator frequency."

## MAX7418EUA+
designator U?
5th-Order Switched Capacitor Lowpass Filter, Elliptic, -40 to 85 degC, 8-Pin SOP (U8+1), Pb-Free; Generic Part Number: MAX7418; PartNumber: MAX7418EUA+; Filter Sections: 1; Order Per Filter Section: 5; Program Method: Clock; DatasheetVersion: Rev. 0; PackageVersion: Rev. L, 08/2009; PackageReference: U8+1; PackageDescription: 8-Pin Micro-MAX, Thin Shrink Small-Outline (U8+1), Body 3 x 3 mm, Pitch 0.65 mm; Supplier 1: Digi-Key; Supplier Part Number 1: MAX7418EUA+-ND; Supplier 2: Mouser; Supplier Part Number 2: 700-MAX7418EUA; Filter Characteristic: Elliptic; Filter Class: Switched Cap; Filter Type: Lowpass; RoHS: Pb-Free; Mounting Technology: Surface Mount; Code_JEDEC: MO-187; ComponentLink1Description: Manufacturer URL; ComponentLink1URL: http://www.maximintegrated.com/; ComponentLink2Description: Datasheet; ComponentLink2URL: http://datasheets.maximintegrated.com/en/ds/MAX7418-MAX7425.pdf; ComponentLink3Description: Package Specification; ComponentLink3URL: http://pdfserv.maximintegrated.com/package_dwgs/21-0036.PDF
footprint MAXM-U8+1_N (SOP, 8-Leads, Body 3x3mm, Pitch 0.65mm, IPC Medium Density)
footprint MAXM-U8+1_L (SOP, 8-Leads, Body 3x3mm, Pitch 0.65mm, IPC High Density)
footprint MAXM-U8+1_M (SOP, 8-Leads, Body 3x3mm, Pitch 0.65mm, IPC Low Density)
pins: 1 COM "Common Input. Biased internally at midsupply. Bypass externally to GND with a 0.1uF capacitor. To override internal biasing, drive with an external supply.", 2 IN (in) "Filter Input", 3 GND (power) "Ground", 4 VDD (power) "Positive Supply Input: +5V for MAX7400/MAX7403, +3V for MAX7404/MAX7407", 5 OUT (hiz) "Filter Output", 6 OS (in) "Offset Adjust Input. To adjust output offset, bias OS externally. Connect OS to COM if no offset adjustment is needed. Refer to Offset and Common-Mode Input Adjustment section.", 7 ~{SHDN} (in) "Shutdown Input. Drive low to enable shutdown mode; drive high or connect to VDD for normal operation.", 8 CLK "Clock Input. To override the internal oscillator, connect to an external clock; otherwise, connect an external capacitor (COSC) from CLK to GND to set the internal oscillator frequency."